# EAGLE library part OP270 (library analog-devices-jqi)
Dual Very Low Noise Precision Operational Amplifier Source: http://www.analog.com/static/imported-files/data_sheets/OP270.pdf
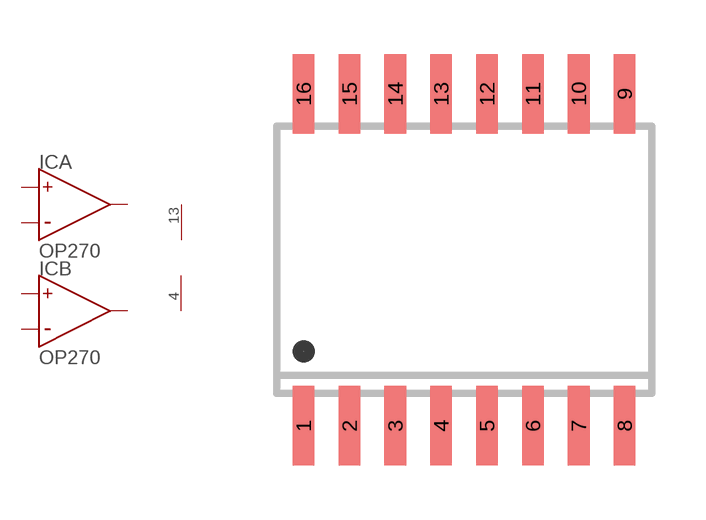
[diagram p3: symbol with the pads of SO16W; footprint SO16W]

Designator prefix IC; gates A=OPAMP-1 B=OPAMP-1 P=PWR+-

## OP270GSZ  [SO16W]
1  A:-  in
2  A:+  in
4  P:V-  pwr
6  B:+  in
7  B:-  in
10  B:OUTPUT  out
13  P:V+  pwr
16  A:OUTPUT  out

## Footprint SO16W (pad centres in mm)
SMALL OUTLINE INTEGRATED CIRCUIT wide body 7.5 mm/JEDEC MS-013AA
smd 0.6 x 2.2: 1 -4.445,-4.6; 2 -3.175,-4.6; 3 -1.905,-4.6; 4 -0.635,-4.6; 5 0.635,-4.6; 6 1.905,-4.6; 7 3.175,-4.6; 8 4.445,-4.6; 9 4.445,4.6; 10 3.175,4.6; 11 1.905,4.6; 12 0.635,4.6; 13 -0.635,4.6; 14 -1.905,4.6; 15 -3.175,4.6; 16 -4.445,4.6